# EAGLE library part MAX98357A (library SparkFun-IC-Amplifiers)
I2S DAC 3.2W (4-8ohm)
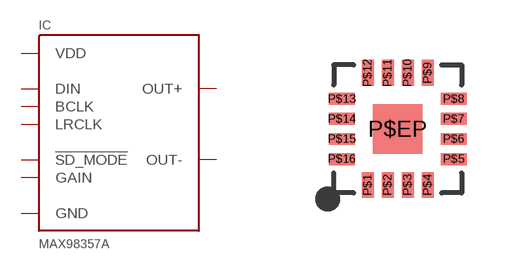
[diagram p12: symbol with the pads of TQFN-16; footprint TQFN-16]

Designator prefix IC

## MAX98357A (PROD_ID: IC-14032; VALUE: MAX98357A)  [TQFN-16]
P$1  DIN
P$2  GAIN
P$3  GND
P$4  !SD_MODE
P$7  VDD
P$8  VDD
P$9  OUT+
P$10  OUT-
P$11  GND
P$14  LRCLK
P$15  GND
P$16  BCLK
P$EP  GND

## Footprint TQFN-16 (pad centres in mm)
smd 0.3 x 0.65: P$1 -0.75,-1.4; P$2 -0.25,-1.4; P$3 0.25,-1.4; P$4 0.75,-1.4; P$9 0.75,1.4; P$10 0.25,1.4; P$11 -0.25,1.4; P$12 -0.75,1.4
smd 0.65 x 0.3: P$5 1.4,-0.75; P$6 1.4,-0.25; P$7 1.4,0.25; P$8 1.4,0.75; P$13 -1.4,0.75; P$14 -1.4,0.25; P$15 -1.4,-0.25; P$16 -1.4,-0.75
smd 1.23 x 1.23: P$EP 0,0